# EAGLE library part IC74245 (library chuong)
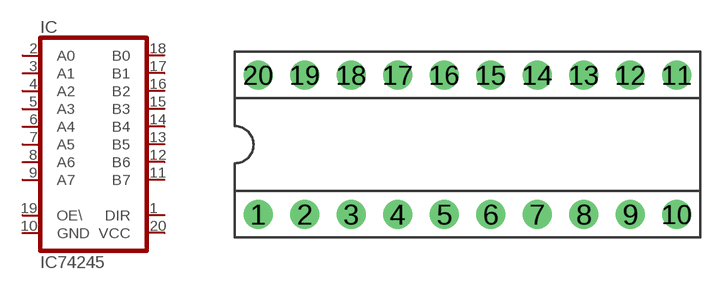
[diagram p31: symbol with the pads of DIP-20\; footprint DIP-20\]

Designator prefix IC

## IC74245  [DIP-20\]
1  DIR  in
2  A0  in
3  A1  in
4  A2  in
5  A3  in
6  A4  in
7  A5  in
8  A6  in
9  A7  in
10  GND  in
11  B7  in
12  B6  in
13  B5  in
14  B4  in
15  B3  in
16  B2  in
17  B1  in
18  B0  in
19  OE\  in
20  VCC  in

## Footprint DIP-20\ (pad centres in mm)
drill 0.61 pad 1.6 round: 1 -11.43,-3.81; 2 -8.89,-3.81; 3 -6.35,-3.81; 4 -3.81,-3.81; 5 -1.27,-3.81; 6 1.27,-3.81; 7 3.81,-3.81; 8 6.35,-3.81; 9 8.89,-3.81; 10 11.43,-3.81; 11 11.43,3.81; 12 8.89,3.81; 13 6.35,3.81; 14 3.81,3.81; 15 1.27,3.81; 16 -1.27,3.81; 17 -3.81,3.81; 18 -6.35,3.81; 19 -8.89,3.81; 20 -11.43,3.81